# EAGLE library part FTSH-105 (library con-samtec-FTSH)
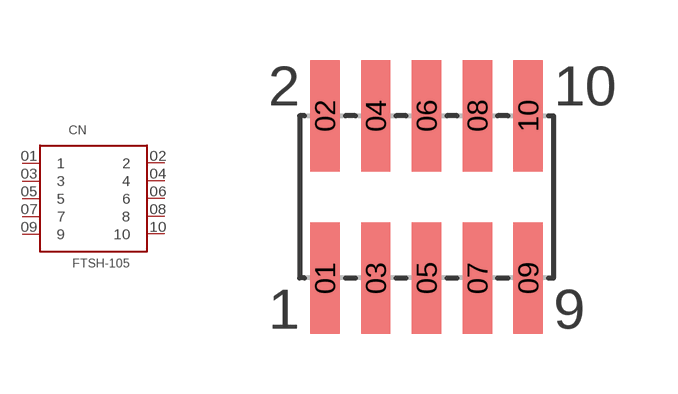
[diagram p1: symbol with the pads of FTSH-105-01-L-DV; footprint FTSH-105-01-L-DV]

Designator prefix CN

## FTSH-105  [FTSH-105-01-L-DV]
01  1
02  2
03  3
04  4
05  5
06  6
07  7
08  8
09  9
10  10

## Footprint FTSH-105-01-L-DV (pad centres in mm)
smd 0.737 x 2.794: 01 -2.54,-2.032; 02 -2.54,2.032; 03 -1.27,-2.032; 04 -1.27,2.032; 05 0,-2.032; 06 0,2.032; 07 1.27,-2.032; 08 1.27,2.032; 09 2.54,-2.032; 10 2.54,2.032